# Altium footprint library con-hirose.PCBLIB: 71 footprints (part 6 of 6)
Each footprint in its own frame and in the unit in brackets; x right, y up, seen from the top. Pads: shape width x height; smd on the part's side, far side on the other; paste and mask are expansions set on the pad; w line width, h text height; cw(c..) or ccw(c..) is an arc to the next point about the centre after c.
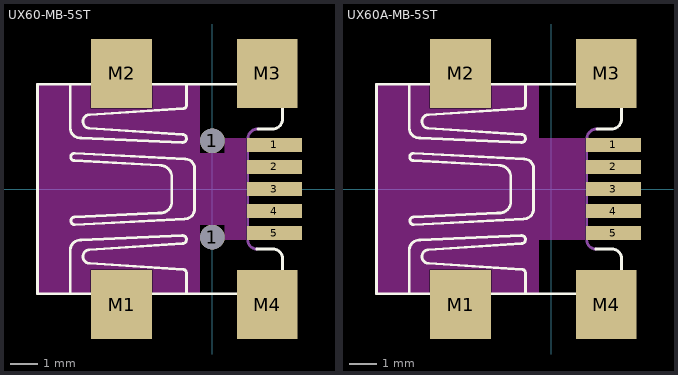
[diagram p5: the footprints below, top view; thin cyan lines are the x and y axes]

## UX60-MB-5ST [mm]
pads (11):
  round 0.9 hole 0.9: 1(0,-1.75) 1(0,1.75)
  rect 2x0.5 smd: 1(2.25,1.6) 2(2.25,0.8) 3(2.25,0) 4(2.25,-0.8) 5(2.25,-1.6)
  rect 2.2x2.5 smd: M1(-3.3,-4.2) M2(-3.3,4.2) M3(2,4.2) M4(2,-4.2)
Top Layer keep-out:
  rectangle: -6.4,-3.85 -4.425,3.85
  rectangle: -2.175,-3.85 -0.45,3.85
  rectangle: -4.425,-2.925 -2.175,2.925
  rectangle: 0.45,-1.85 1.225,1.85
  rectangle: -0.45,-1.3 0.45,1.3
Top Overlay:
  lines w0.102: -5.159,-3.75 -5.159,-2.208 cw(c-4.809,-2.208) -4.809,-1.858 -4.767,-1.858 -1.094,-1.69 cw(c-1.087,-1.837) -1.08,-1.984 -4.472,-2.208 ccw(c-4.456,-2.453) -4.458,-2.699 -1.052,-2.923 cw(c-1.06,-3.043) -0.94,-3.05 -0.94,-3.75 ; -5.159,3.75 -5.159,2.208 ccw(c-4.809,2.208) -4.809,1.857 -4.767,1.857 -1.094,1.689 ccw(c-1.087,1.836) -1.08,1.983 -4.472,2.208 cw(c-4.456,2.453) -4.458,2.698 -1.052,2.923 ccw(c-1.06,3.043) -0.94,3.049 -0.94,3.75 ; -3.856,-3.863 -3.856,-4.732 ccw(c-3.687,-4.732) -3.687,-4.9 ccw(c-3.687,-4.746) -3.533,-4.746 -3.533,-4.578 cw(c-3.309,-4.578) -3.309,-4.353 -3.281,-4.353 cw(c-3.281,-4.578) -3.056,-4.578 -3.056,-4.732 ccw(c-2.888,-4.732) -2.888,-4.9 ; -3.855,3.806 -3.855,4.745 cw(c-3.702,4.746) -3.701,4.899 ; -2.734,3.862 -2.734,4.731 ccw(c-2.902,4.731) -2.902,4.899 ccw(c-2.902,4.745) -3.056,4.745 -3.056,4.577 cw(c-3.28,4.577) -3.281,4.353 -3.309,4.353 cw(c-3.309,4.577) -3.533,4.577 -3.533,4.731 ccw(c-3.701,4.731) -3.701,4.899 ; 1.43,-3.863 1.43,-4.732 ccw(c1.598,-4.732) 1.598,-4.9 ccw(c1.598,-4.746) 1.752,-4.746 1.752,-4.578 cw(c1.976,-4.578) 1.976,-4.353 2.004,-4.353 cw(c2.005,-4.577) 2.229,-4.578 2.229,-4.732 ccw(c2.397,-4.732) 2.397,-4.9 ; 1.43,3.806 1.43,4.745 cw(c1.583,4.746) 1.584,4.899 ; 1.612,-2.18 2.201,-2.18 cw(c2.201,-2.531) 2.551,-2.531 2.551,-3.806 ; 1.654,2.18 2.187,2.18 ccw(c2.187,2.544) 2.551,2.544 2.551,3.806 -6.351,3.806 -6.351,-3.806 -2.734,-3.806 ; 2.551,3.792 2.551,4.731 ccw(c2.383,4.731) 2.383,4.899 ccw(c2.383,4.745) 2.229,4.745 2.229,4.577 cw(c2.005,4.577) 2.005,4.353 1.976,4.353 cw(c1.976,4.577) 1.752,4.577 1.752,4.731 ccw(c1.584,4.731) 1.584,4.899 ; -3.701,4.899 -3.701,4.899 ; -2.888,-4.9 ccw(c-2.888,-4.746) -2.734,-4.746 -2.734,-3.806 ; -2.888,-4.9 -2.888,-4.9 ; -2.734,-3.806 2.551,-3.806 ; 1.584,4.899 1.584,4.899 ; 2.397,-4.9 ccw(c2.397,-4.746) 2.551,-4.746 2.551,-3.806 ; 2.397,-4.9 2.397,-4.9 ; -5.019,1.03 cw(c-5.012,1.163) -5.005,1.296 -0.982,1.086 cw(c-0.982,0.75) -0.645,0.75 -0.645,-0.722 cw(c-1.01,-0.722) -1.01,-1.087 -5.005,-1.297 cw(c-4.999,-1.157) -5.005,-1.017 -1.963,-0.877 -1.893,-0.877 ccw(c-1.893,-0.456) -1.472,-0.456 -1.472,0.427 ccw(c-1.907,0.427) -1.907,0.862 -5.019,1.03
Mechanical 16:
  rectangle: 1.304,1.437 2.607,1.773
  rectangle: 1.304,0.638 2.607,0.974
  rectangle: 1.304,-0.162 2.607,0.175
  rectangle: 1.304,-0.961 2.607,-0.624
  rectangle: 1.304,-1.76 2.607,-1.423
  lines w0.102: 1.612,-2.18 cw(c1.612,-1.858) 1.289,-1.858 1.289,1.815 cw(c1.654,1.815) 1.654,2.18

## UX60A-MB-5ST [mm]
pads (9):
  rect 2x0.5 smd: 1(2.25,1.6) 2(2.25,0.8) 3(2.25,0) 4(2.25,-0.8) 5(2.25,-1.6)
  rect 2.2x2.5 smd: M1(-3.3,-4.2) M2(-3.3,4.2) M3(2,4.2) M4(2,-4.2)
Top Layer keep-out:
  rectangle: -6.4,-3.85 -4.425,3.85
  rectangle: -2.175,-3.85 -0.45,3.85
  rectangle: -4.425,-2.925 -2.175,2.925
  rectangle: -0.45,-1.85 1.225,1.85
Top Overlay:
  lines w0.102: -5.159,-3.75 -5.159,-2.208 cw(c-4.809,-2.208) -4.809,-1.858 -4.767,-1.858 -1.094,-1.69 cw(c-1.087,-1.837) -1.08,-1.984 -4.472,-2.208 ccw(c-4.456,-2.453) -4.458,-2.699 -1.052,-2.923 cw(c-1.06,-3.043) -0.94,-3.05 -0.94,-3.75 ; -5.159,3.75 -5.159,2.208 ccw(c-4.809,2.208) -4.809,1.857 -4.767,1.857 -1.094,1.689 ccw(c-1.087,1.836) -1.08,1.983 -4.472,2.208 cw(c-4.456,2.453) -4.458,2.698 -1.052,2.923 ccw(c-1.06,3.043) -0.94,3.049 -0.94,3.75 ; -3.856,-3.863 -3.856,-4.732 ccw(c-3.687,-4.732) -3.687,-4.9 ccw(c-3.687,-4.746) -3.533,-4.746 -3.533,-4.578 cw(c-3.309,-4.577) -3.309,-4.353 -3.281,-4.353 cw(c-3.28,-4.577) -3.056,-4.578 -3.056,-4.732 ccw(c-2.888,-4.732) -2.888,-4.9 ; -3.855,3.806 -3.855,4.745 cw(c-3.702,4.746) -3.701,4.899 ; -2.734,3.862 -2.734,4.731 ccw(c-2.902,4.731) -2.902,4.899 ccw(c-2.902,4.745) -3.056,4.745 -3.056,4.577 cw(c-3.28,4.577) -3.281,4.353 -3.309,4.353 cw(c-3.309,4.577) -3.533,4.577 -3.533,4.731 ccw(c-3.701,4.731) -3.701,4.899 ; 1.43,-3.863 1.43,-4.732 ccw(c1.598,-4.732) 1.598,-4.9 ccw(c1.598,-4.746) 1.752,-4.746 1.752,-4.578 cw(c1.976,-4.578) 1.976,-4.353 2.004,-4.353 cw(c2.005,-4.577) 2.229,-4.578 2.229,-4.732 ccw(c2.397,-4.732) 2.397,-4.9 ; 1.43,3.806 1.43,4.745 cw(c1.583,4.746) 1.584,4.899 ; 1.612,-2.18 2.201,-2.18 cw(c2.201,-2.531) 2.551,-2.531 2.551,-3.806 ; 1.654,2.18 2.187,2.18 ccw(c2.187,2.544) 2.551,2.544 2.551,3.806 -6.351,3.806 -6.351,-3.806 -2.734,-3.806 ; 2.551,3.792 2.551,4.731 ccw(c2.383,4.731) 2.383,4.899 ccw(c2.383,4.745) 2.229,4.745 2.229,4.577 cw(c2.005,4.577) 2.005,4.353 1.976,4.353 cw(c1.976,4.577) 1.752,4.577 1.752,4.731 ccw(c1.584,4.731) 1.584,4.899 ; -3.701,4.899 -3.701,4.899 ; -2.888,-4.9 ccw(c-2.888,-4.746) -2.734,-4.746 -2.734,-3.806 ; -2.888,-4.9 -2.888,-4.9 ; -2.734,-3.806 2.551,-3.806 ; 1.584,4.899 1.584,4.899 ; 2.397,-4.9 ccw(c2.397,-4.746) 2.551,-4.746 2.551,-3.806 ; 2.397,-4.9 2.397,-4.9 ; -5.019,1.03 cw(c-5.012,1.163) -5.005,1.296 -0.982,1.086 cw(c-0.982,0.749) -0.645,0.75 -0.645,-0.722 cw(c-1.01,-0.722) -1.01,-1.087 -5.005,-1.297 cw(c-4.999,-1.157) -5.005,-1.017 -1.963,-0.877 -1.893,-0.877 ccw(c-1.893,-0.456) -1.472,-0.456 -1.472,0.427 ccw(c-1.907,0.427) -1.907,0.862 -5.019,1.03
Mechanical 16:
  rectangle: 1.304,1.437 2.607,1.773
  rectangle: 1.304,0.638 2.607,0.974
  rectangle: 1.304,-0.162 2.607,0.175
  rectangle: 1.304,-0.961 2.607,-0.624
  rectangle: 1.304,-1.76 2.607,-1.423
  lines w0.102: 1.612,-2.18 cw(c1.612,-1.858) 1.289,-1.858 1.289,1.815 cw(c1.654,1.815) 1.654,2.18